# EAGLE library part PIC16F1847 (library IC & Transistor)
PIC16F1826/27/47
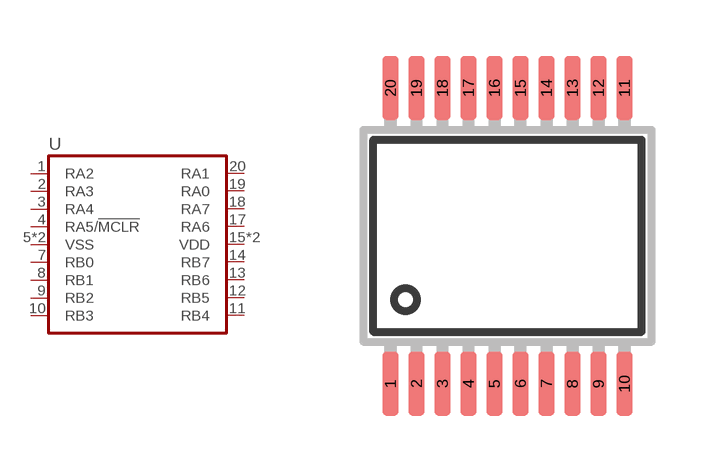
[diagram p4: symbol with the pads of SSOP-20; footprint SSOP-20]

Designator prefix U

## PIC16F1847_(SSOP-20) (CYTRON-PC: S-IC-PIC16F1847-SSOP20; DESC: S PIC16F1847-I/SS SSOP-20; MF: Microchip Technology; MPN: PIC16F1847-I/SS)  [SSOP-20]
1  RA2
2  RA3
3  RA4
4  RA5/!MCLR!
5  VSS
6  VSS
7  RB0
8  RB1
9  RB2
10  RB3
11  RB4
12  RB5
13  RB6
14  RB7
15  VDD
16  VDD
17  RA6
18  RA7
19  RA0
20  RA1

## Footprint SSOP-20 (pad centres in mm)
Shrink Small Outline Package (SSOP) Size: 7.2 x 5.3mm Lead Pitch: 0.65mm
smd 0.4 x 1.6: 1 -2.925,-3.7; 2 -2.275,-3.7; 3 -1.625,-3.7; 4 -0.975,-3.7; 5 -0.325,-3.7; 6 0.325,-3.7; 7 0.975,-3.7; 8 1.625,-3.7; 9 2.275,-3.7; 10 2.925,-3.7; 11 2.925,3.7; 12 2.275,3.7; 13 1.625,3.7; 14 0.975,3.7; 15 0.325,3.7; 16 -0.325,3.7; 17 -0.975,3.7; 18 -1.625,3.7; 19 -2.275,3.7; 20 -2.925,3.7